# Altium footprint library DIP28_SOCKET.PcbLib: 2 footprints
Each footprint in its own frame and in the unit in brackets; x right, y up, seen from the top. Pads: shape width x height; smd on the part's side, far side on the other; paste and mask are expansions set on the pad; w line width, h text height; cw(c..) or ccw(c..) is an arc to the next point about the centre after c.
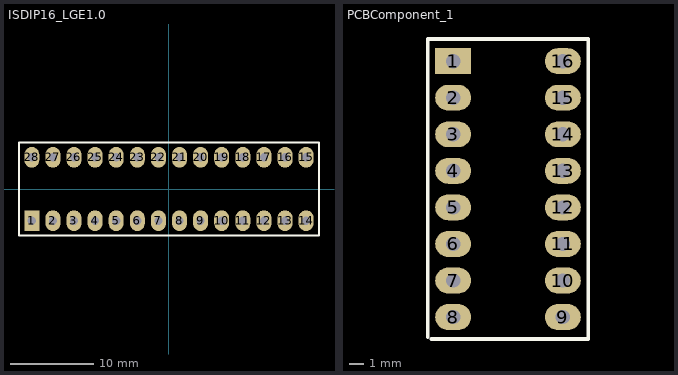
[diagram p0: the footprints below, top view; thin cyan lines are the x and y axes]

## ISDIP16_LGE1.0 [mm] "DIP; 16 Rectangular Pins; Row Space 7.62 mm; Pitch 2.54 mm"
height 11.94
pads (28):
  rect 1.8x2.5 hole 0.991: 1(-16.51,-3.81)
  oval 1.8x2.5 hole 0.991: 2(-13.97,-3.81) 3(-11.43,-3.81) 4(-8.89,-3.81) 5(-6.35,-3.81) 6(-3.81,-3.81) 7(-1.27,-3.81) 8(1.27,-3.81) 9(3.81,-3.81) 10(6.35,-3.81) 11(8.89,-3.81) 12(11.43,-3.81) 13(13.97,-3.81) 14(16.51,-3.81) 15(16.51,3.81) 16(13.97,3.81) 17(11.43,3.81) 18(8.89,3.81) 19(6.35,3.81) 20(3.81,3.81) 21(1.27,3.81) 22(-1.27,3.81) 23(-3.81,3.81) 24(-6.35,3.81) 25(-8.89,3.81) 26(-11.43,3.81) 27(-13.97,3.81) 28(-16.51,3.81)
Top Overlay:
  lines w0.25: -18.05,-5.588 18.059,-5.588 18.059,5.588 -18.05,5.588 -18.05,-5.588

## PCBComponent_1 [mm]
pads (16):
  rect 2.5x1.8 hole 0.991: 1(-1284.862,-1219.138)
  oval 2.5x1.8 hole 0.991: 2(-1284.862,-1221.678) 3(-1284.862,-1224.218) 4(-1284.862,-1226.758) 5(-1284.862,-1229.298) 6(-1284.862,-1231.838) 7(-1284.862,-1234.378) 8(-1284.862,-1236.918) 9(-1277.242,-1236.918) 10(-1277.242,-1234.378) 11(-1277.242,-1231.838) 12(-1277.242,-1229.298) 13(-1277.242,-1226.758) 14(-1277.242,-1224.218) 15(-1277.242,-1221.678) 16(-1277.242,-1219.138)
Top Overlay:
  lines w0.25: -1286.64,-1238.309 -1286.64,-1217.598 -1277.877,-1217.598 -1275.464,-1217.598 -1275.464,-1238.442 -1286.386,-1238.442